# Altium schematic symbol library on-semi-transistor.SchLib: 8 symbols
Pins are listed as number, name and electrical type; pins without a type are passive.

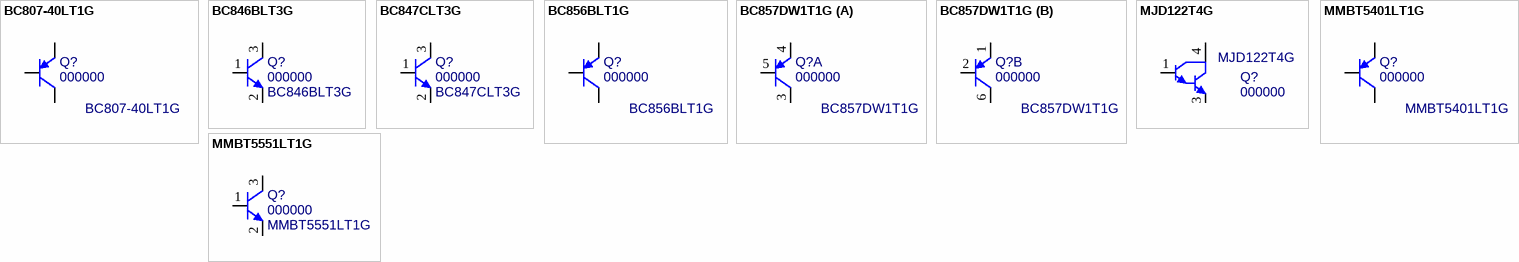
[diagram p0: symbols BC807-40LT1G to MMBT5551LT1G]

## BC807-40LT1G
designator Q?, comment 000000  value BC807-40LT1G
PNP Transistor, 45V, 500mA; MF: ON Semiconductor; PN: 000000; Package: SOT-23; ExtraInfo: *; MF PN: BC807-40LT1G
signal-integrity model PNP
footprint SOT-23-M (SOT23, 3-Leads, Body 3.0x2.8mm (max), Pitch 0.95mm, Medium Density)
pins: 1 B, 2 E, 3 C

## BC846BLT3G
designator Q?, comment 000000  value BC846BLT3G
NPN Transistor, 65V, 100mA; PN: 000000; Package: SOT-23; ExtraInfo: *
footprint SOT-23-M (SOT23, 3-Leads, Body 3.0x2.8mm (max), Pitch 0.95mm, Medium Density)
pins: 1 B, 2 E, 3 C

## BC847CLT3G
designator Q?, comment 000000  value BC847CLT3G
NPN Transistor, 45V, 100mA; PN: 000000; Package: SOT-23; ExtraInfo: *
footprint SOT-23-M (SOT23, 3-Leads, Body 3.0x2.8mm (max), Pitch 0.95mm, Medium Density)
pins: 1 B, 2 E, 3 C

## BC856BLT1G
designator Q?, comment 000000  value BC856BLT1G
PNP Transistor, 65V, 100mA; PN: 000000; Package: SOT-23; ExtraInfo: *
signal-integrity model PNP
footprint SOT-23-M (SOT23, 3-Leads, Body 3.0x2.8mm (max), Pitch 0.95mm, Medium Density)
pins: 1 B, 2 E, 3 C

## BC857DW1T1G
designator Q?, comment 000000  value BC857DW1T1G
PNP General-purpose Transistor; PN: 000000; Package: SOT363
simulation model PNP
signal-integrity model PNP
footprint SOT363-H (6-Lead Plastic surface-mounted package, 0.65mm pitch, SOT363/SC-88)
footprint SOT363-M (6-Lead Plastic surface-mounted package, 0.65mm pitch, SOT363/SC-88)
part A pins: 3 C1, 4 E1, 5 B1
part B pins: 1 E2, 2 B2, 6 C2

## MJD122T4G
designator Q?, comment 000000  value MJD122T4G
NPN Darlington Power Transistor, 100V, 8A; ExtraInfo: *; PN: 000000; Package: TO252
signal-integrity model NPN
footprint TO252-3 (D-PAK, 3-Pads, Body 6.20x6.72mm (max), IPC Medium Density)
pins: 1 B, 3 E, 4 C

## MMBT5401LT1G
designator Q?, comment 000000  value MMBT5401LT1G
PNP Transistor, 150V, -500mA; PN: 000000; Package: SOT-23; ExtraInfo: *
signal-integrity model PNP
footprint SOT-23-HV (SOT23, 3-Leads, Body 3.0x2.8mm (max), Pitch 0.95mm, IPC High Density)
pins: 1 B, 2 E, 3 C

## MMBT5551LT1G
designator Q?, comment 000000  value MMBT5551LT1G
NPN Transistor, 160V, 600mA; PN: 000000; Package: SOT-23; ExtraInfo: *
footprint SOT-23-HV (SOT23, 3-Leads, Body 3.0x2.8mm (max), Pitch 0.95mm, IPC High Density)
pins: 1 B, 2 E, 3 C